# EAGLE library part SSD1306_128X32_SPI_LCD (library open_hw_sockets)
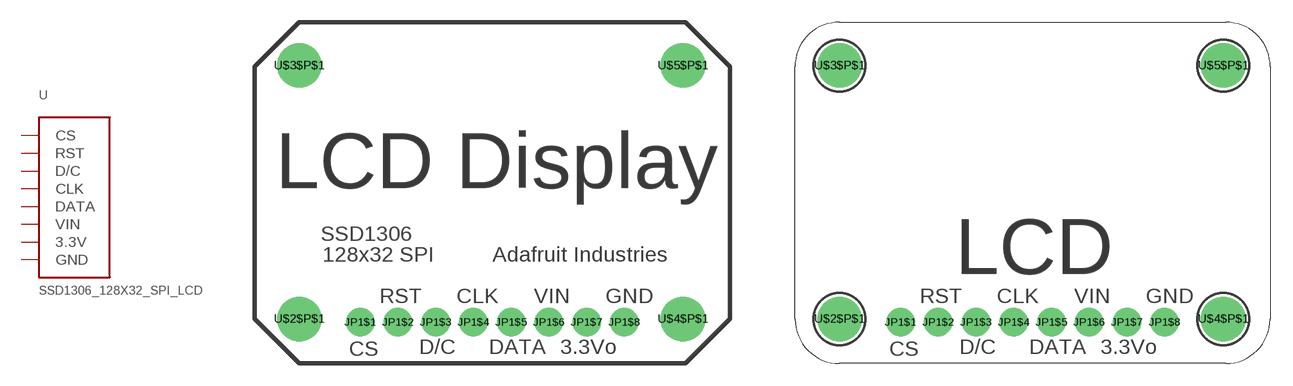
[diagram p2: symbol with the pads of SSD1306_128X32_SPI_LCD; footprints SSD1306_128X32_SPI_LCD, SSD1306_128X32_SPI_LCD_TOP]

Designator prefix -

## SSD1306_128X32_SPI_LCD  [SSD1306_128X32_SPI_LCD]
JP1$1  CS  in
JP1$2  RST  in
JP1$3  D/C  in
JP1$4  CLK  in
JP1$5  DATA
JP1$6  VIN  pwr
JP1$7  3.3V  sup
JP1$8  GND  pwr
U$2$P$1  GND  pwr
U$3$P$1  GND  pwr
U$4$P$1  GND  pwr
U$5$P$1  GND  pwr

## SSD1306_128X32_SPI_LCDTOP  [SSD1306_128X32_SPI_LCD_TOP]
Pads as for SSD1306_128X32_SPI_LCD

## Footprint SSD1306_128X32_SPI_LCD (pad centres in mm)
drill 1 pad 1.93: JP1$1 7.11,2.794; JP1$2 9.65,2.794; JP1$3 12.19,2.794; JP1$4 14.73,2.794; JP1$5 17.27,2.794; JP1$6 19.81,2.794; JP1$7 22.35,2.794; JP1$8 24.89,2.794
drill 2 pad 3: U$2$P$1 3,3; U$3$P$1 3,20.08; U$4$P$1 28.84,3; U$5$P$1 28.84,20.08

## Footprint SSD1306_128X32_SPI_LCD_TOP (pad centres in mm)
drill 1 pad 1.93: JP1$1 7.11,2.794; JP1$2 9.65,2.794; JP1$3 12.19,2.794; JP1$4 14.73,2.794; JP1$5 17.27,2.794; JP1$6 19.81,2.794; JP1$7 22.35,2.794; JP1$8 24.89,2.794
drill 2 pad 3: U$2$P$1 3,3; U$3$P$1 3,20.08; U$4$P$1 28.84,3; U$5$P$1 28.84,20.08